# Altium footprint library DIODFN100X60X55-2N.PcbLib: 1 footprints
Each footprint in its own frame and in the unit in brackets; x right, y up, seen from the top. Pads: shape width x height; smd on the part's side, far side on the other; paste and mask are expansions set on the pad; w line width, h text height; cw(c..) or ccw(c..) is an arc to the next point about the centre after c.
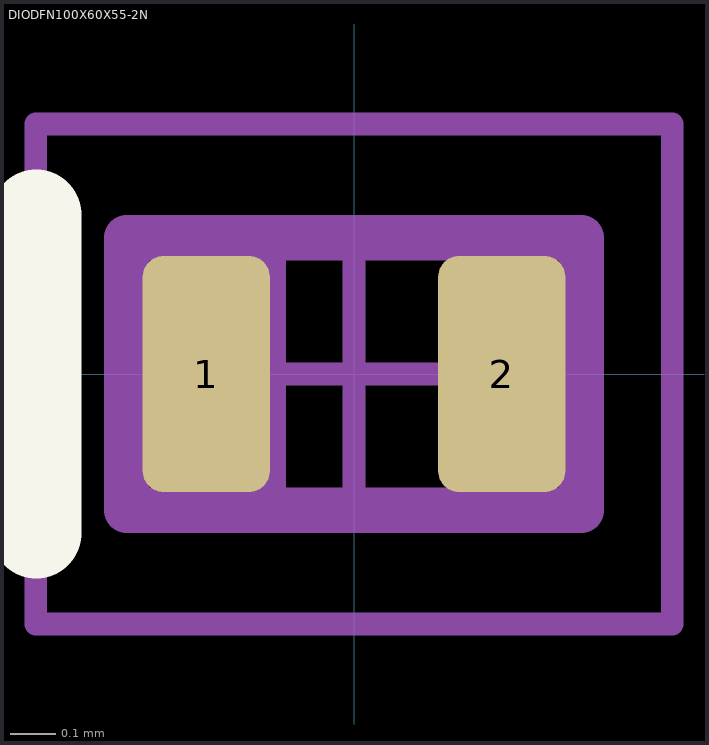
[diagram p0: the footprint, top view; thin cyan lines are the x and y axes]

## DIODFN100X60X55-2N [mm] "Diode, Dual Flat No-Lead (DFN 2 Pin); 2 pin, 1.00 mm L X 0.60 mm W X 0.55 mm H body"
height 0.55
pads (2):
  rrect33% 0.28x0.52 smd: 1(-0.325,0) 2(0.325,0)
Top Overlay:
  lines w0.2: -0.7,-0.35 -0.7,0.35
Top Assembly:
  rectangle: -0.35,-0.316 -0.15,0.3
  lines w0.1: -0.5,-0.3 0.5,-0.3 0.5,0.3 -0.5,0.3 -0.5,-0.3
Top Courtyard:
  lines w0.05: -0.7,-0.55 0.7,-0.55 0.7,0.55 -0.7,0.55 -0.7,-0.55
Top Designator:
  text ".Designator" at -0.25,0.5 h0.7
Top Component Center:
  lines w0.05: -0.25,0 0.25,0 ; 0,-0.25 0,0.25
3D body "DIODFN100X60X55-2N.STEP": height 0.55, standoff 0, extent -0.5,-0.3 0.5,0.3